# Altium footprint library yusend_power.PCBLIB: 87 footprints (part 5 of 6)
Each footprint in its own frame and in the unit in brackets; x right, y up, seen from the top. Pads: shape width x height; smd on the part's side, far side on the other; paste and mask are expansions set on the pad; w line width, h text height; cw(c..) or ccw(c..) is an arc to the next point about the centre after c.
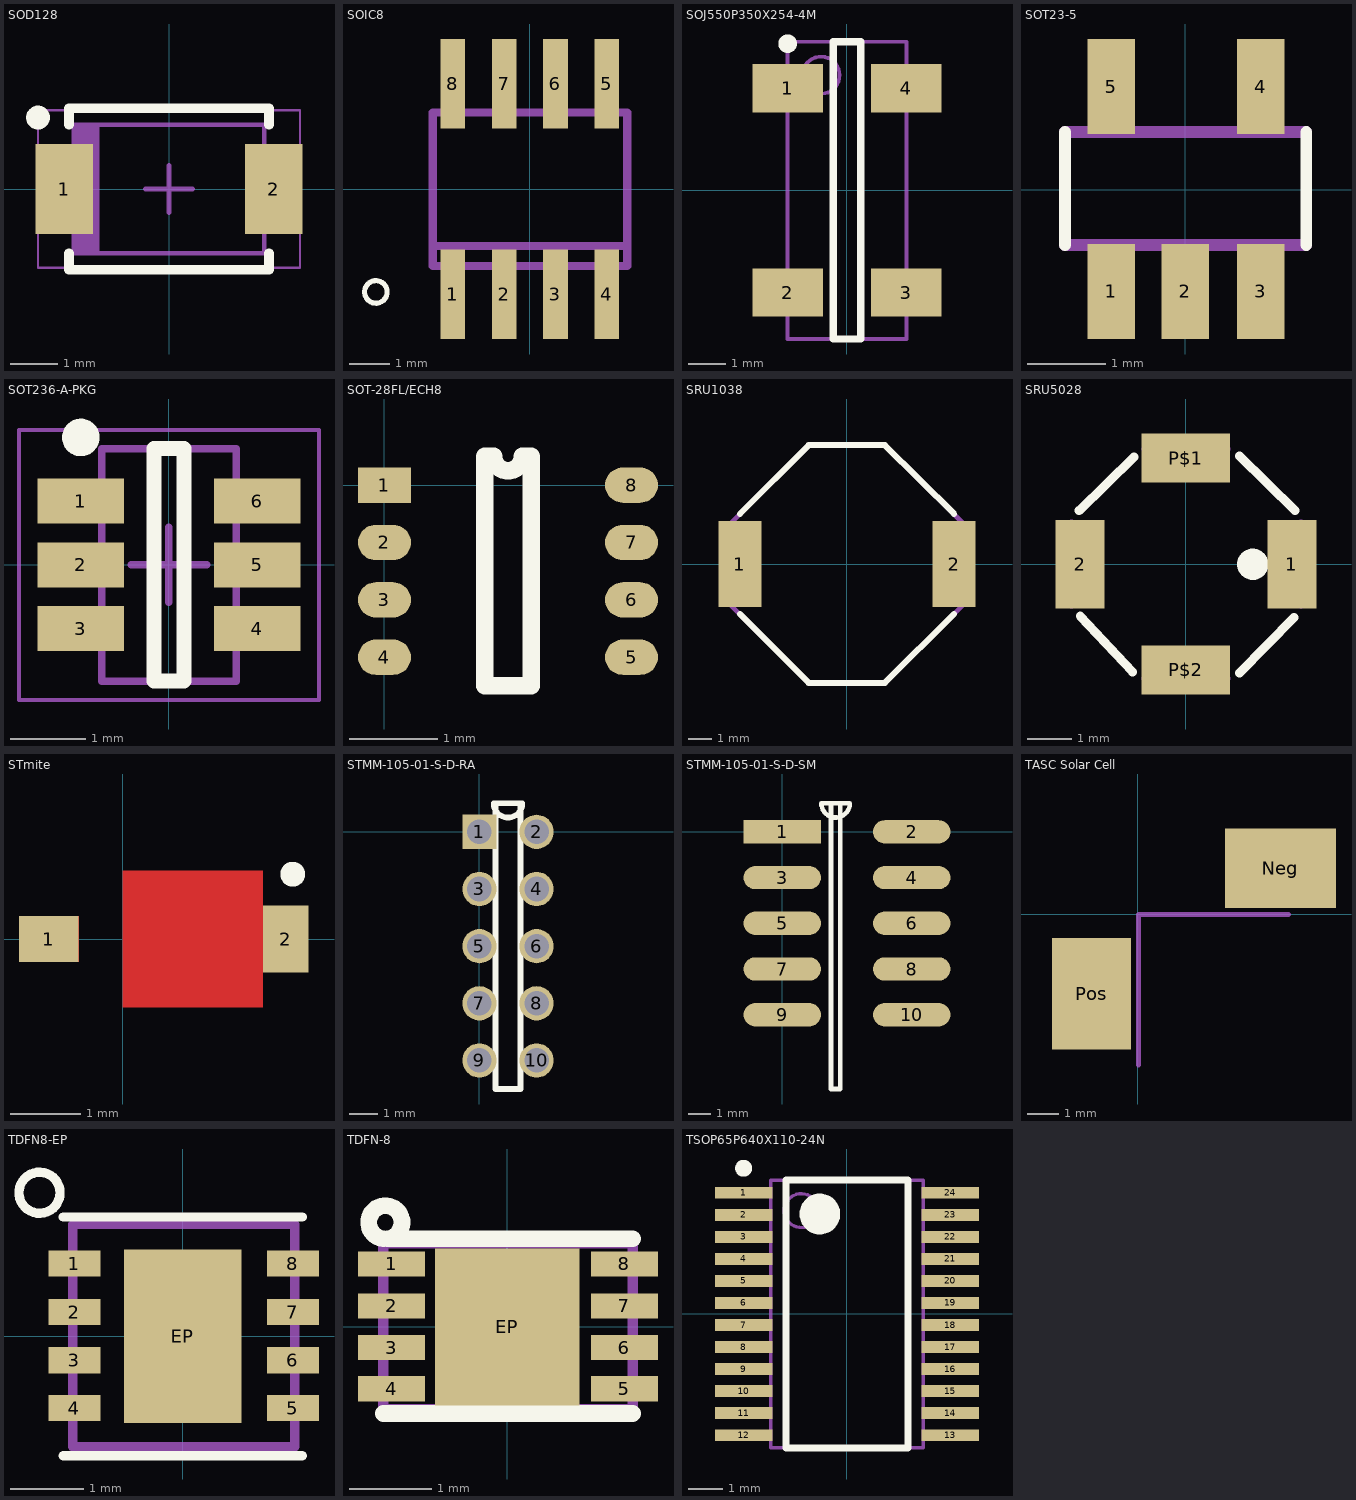
[diagram p4: the footprints below, top view; thin cyan lines are the x and y axes]

## SOD128 [mm] "Molded Diode, 2-Leads, Body 3.80x2.50mm, IPC Medium Density"
height 1.1
pads (2):
  rect 1.2x1.9 smd: 1(-2.2,0) 2(2.2,0)
Top Overlay:
  circle w0.25: c-2.75,1.5 r0.125
  lines w0.2: -2.1,-1.35 -2.1,-1.7 2.1,-1.7 2.1,-1.35 ; -2.1,1.35 -2.1,1.7 2.1,1.7 2.1,1.35
Mechanical 13:
  rectangle: -2,-1.35 -1.462,1.35
  lines w0.1: -2,-1.35 2,-1.35 2,1.35 -2,1.35 -2,-1.35
Mechanical 15:
  lines w0.05: -2.75,-1.65 2.75,-1.65 2.75,1.65 -2.75,1.65 -2.75,-1.65
  lines w0.1: -0.5,0 0.5,0 ; 0,-0.5 0,0.5
3D body: height 1.1, standoff 0, extent -2,-1.35 2,1.35

## SOIC8 [mil]
pads (8):
  rect 24x87 smd: 1(-75,-102.36) 2(-25,-102.36) 3(25,-102.36) 4(75,-102.36) 5(75,103) 6(25,103) 7(-25,103) 8(-75,103)
Top Overlay:
  circle w5: c-150,-100 r11
Mechanical 16:
  rectangle: -84.65,79 -65.35,123
  rectangle: -34.65,79 -15.35,123
  rectangle: 16,79 35,123
  rectangle: 66,79 85,123
  rectangle: 66,-122.05 85,-78.74
  rectangle: 16,-122.05 35,-78.74
  rectangle: -34.65,-122.05 -15.35,-78.74
  rectangle: -84.65,-122.05 -65.35,-78.74
  lines w8: -94.49,-55.12 95,-55.12 ; -94.49,-55.12 -94.49,75 95,75 95,-55.12 ; -94.49,-55.12 -94.49,-74.8 95,-74.8 95,-55.12

## SOJ550P350X254-4M [mm] "SOJ, 4-Leads, Body 8.00x3.55mm, Pitch 5.50mm, IPC Low Density"
height 2.54
pads (4):
  rect 1.9x1.3 smd: 1(-1.6,2.75) 2(-1.6,-2.75) 3(1.6,-2.75) 4(1.6,2.75)
Top Overlay:
  circle w0.25: c-1.6,3.95 r0.125
  lines w0.2: -0.375,-4 0.375,-4 0.375,4 -0.375,4 -0.375,-4
Mechanical 13:
  circle w0.1: c-0.7,3.1 r0.5
  lines w0.1: -1.6,-4 1.6,-4 1.6,4 -1.6,4 -1.6,-4
3D body: height 2.54, standoff 0.1, extent -1.6,-4 1.6,4

## SOT23-5 [mil]
pads (5):
  rect 24x48 smd: 1(-37.4,-51.42) 2(0,-51.42) 3(38,-51.42) 4(38,52) 5(-37.4,52)
Top Overlay:
  lines w6: -60.79,-28.03 -60.79,29 ; 61,-28.03 61,29
Mechanical 16:
  rectangle: -46.75,29 -28.05,61
  rectangle: 29,29 47,61
  rectangle: -46.75,-60.78 -28.05,-28.05
  rectangle: -9.35,-60.78 10,-28.05
  rectangle: 29,-60.78 47,-28.05
  lines w6: -60.79,-28.03 61,-28.03 ; -60.79,29 61,29

## SOT236-A-PKG [mm]
height 1.3
pads (6):
  rect 1.15x0.6 smd: 1(-1.175,0.85) 2(-1.175,0) 3(-1.175,-0.85) 4(1.175,-0.85) 5(1.175,0) 6(1.175,0.85)
Top Overlay:
  circle w0.25: c-1.175,1.7 r0.125
  lines w0.2: -0.2,-1.55 -0.2,1.55 0.2,1.55 0.2,-1.55 -0.2,-1.55
Mechanical 13:
  lines w0.1: -0.9,-1.55 0.9,-1.55 0.9,1.55 -0.9,1.55 -0.9,-1.55
Mechanical 15:
  lines w0.05: -2,-1.8 2,-1.8 2,1.8 -2,1.8 -2,-1.8
  lines w0.1: -0.5,0 0.5,0 ; 0,-0.5 0,0.5
3D body: height 1.3, standoff 0, extent -0.9,-1.55 0.9,1.55

## SOT-28FL/ECH8 [mm]
pads (8):
  rect 0.6x0.4 smd: 1(0,0)
  oval 0.6x0.4 smd: 2(0,-0.65) 3(0,-1.3) 4(0,-1.95) 5(2.8,-1.95) 6(2.8,-1.3) 7(2.8,-0.65) 8(2.8,0)
Top Overlay:
  lines w0.2: 1.135,-2.275 1.135,0.325 1.238,0.325 ccw(c1.4,0.325) 1.562,0.325 1.665,0.325 1.665,-2.275 1.135,-2.275

## SRU1038 [mil]
pads (2):
  rect 71x142 smd: 1(-177.17,0) 2(178,0)
Top Overlay:
  lines w10: -177.17,-82.68 -62.99,-196.85 63,-196.85 178,-82.68 ; -177.17,83 -62.99,197 63,197 178,83
Mechanical 16:
  lines w8: -196.85,-62.99 -196.85,63 -62.99,197 63,197 197,63 197,-62.99 63,-196.85 -62.99,-196.85 -196.85,-62.99

## SRU5028 [mil]
pads (4):
  rect 44x79 smd: 1(95,0) 2(-94.49,0)
  rect 79x44 smd: P$1(0,95) P$2(0,-94.49)
Top Overlay:
  circle w16: c60,0 r6
  lines w8: -95.36,48 -46.43,96 ; -94.36,-46.43 -47.43,-96.36 ; 48,-97.36 97,-47.43 ; 48,97 98,48
Mechanical 16:
  lines w8: -102.36,-35.43 -102.36,36 ; -35.43,-102.36 36,-102.36 ; -35.43,103 36,103 ; 103,-35.43 103,36

## SSOP20 [mil]

## STmite [mm]
pads (2):
  rect 0.85x0.65 smd: 1(-1.055,0)
  rect 0.65x0.95 smd: 2(2.325,0)
Top Layer:
  rectangle: 0,-0.975 2,0.975
  rectangle: -1.475,-0.325 -0.625,0.325
Top Overlay:
  circle w0.254: c2.425,0.925 r0.05

## STMM-105-01-S-D-RA [mm]
pads (10):
  rect 1.2x1.2 hole 0.86: 1(0,0)
  round 1.2 hole 0.86: 2(2,0) 3(0,-2) 4(2,-2) 5(0,-4) 6(2,-4) 7(0,-6) 8(2,-6) 9(0,-8) 10(2,-8)
Top Overlay:
  lines w0.2: 0.5,1 ccw(c1,1) 1.5,1 0.565,1 0.565,-9 1.435,-9 1.435,1 0.5,1
3D body: height 6.55, standoff -2.27, extent -0.228,-12.156 8.376,4.006

## STMM-105-01-S-D-SM [mm]
pads (10):
  rect 3.39x1.02 smd: 1(0,0)
  oval 3.39x1.02 smd: 2(5.66,0) 3(0,-2) 4(5.66,-2) 5(0,-4) 6(5.66,-4) 7(0,-6) 8(5.66,-6) 9(0,-8) 10(5.66,-8)
Top Overlay:
  lines w0.2: 1.705,1.25 ccw(c2.33,1.25) 2.955,1.25 2.13,1.25 2.13,-11.25 2.53,-11.25 2.53,1.25 1.705,1.25
3D body: height 6.13, standoff 0.03, extent -1.024,-12.206 6.774,3.956

## TASC Solar Cell [mm]
height 0.5
pads (2):
  rect 3.5x2.5 smd: Neg(4.5,1.45)
  rect 2.5x3.5 smd: Pos(-1.45,-2.5)
Mechanical 16:
  lines w0.152: 0.025,-4.75 0.025,0 4.75,0

## TDFN8-EP [mil]
pads (9):
  rect 28x14 smd: 1(-58.07,39) 2(-58.07,13) 3(-58.07,-12.8) 4(-58.07,-38.39) 5(59,-38.39) 6(59,-12.8) 7(59,13) 8(59,39)
  rect 63x93 smd: EP(0,0)
Top Overlay:
  circle w5: c-76.77,77 r11
  lines w5: -63.98,-63.98 64,-63.98 ; -63.98,64 64,64
Mechanical 14:
  lines w5: -59.06,-59.06 -59.06,60 60,60 60,-59.06 -59.06,-59.06

## TDFN-8 [mil]
pads (9):
  rect 32x12 smd: 1(-55.12,30) 2(-55.12,10) 3(-55.12,-9.84) 4(-55.12,-29.53) 5(56,-29.53) 6(56,-9.84) 7(56,10) 8(56,30)
  rect 69x75 smd: EP(0,0)
Top Overlay:
  lines w5: -59.06,42 -57.09,42
  lines w8: -59.06,-41.34 60,-41.34 ; -59.06,42 cw(c-58.07,49.87) -57.09,42 60,42
Top Paste:
  rectangle: -13,-13 13,13
Top Solder:
  rectangle: -34.06,-37.01 35,38
  rectangle: 40,-35.43 71,-23.62
  rectangle: 40,-15.75 71,-3.94
  rectangle: 40,4 71,16
  rectangle: 40,24 71,36
  rectangle: -70.87,-35.43 -39.37,-23.62
  rectangle: -70.87,4 -39.37,16
  rectangle: -70.87,-15.75 -39.37,-3.94
  rectangle: -70.87,24 -39.37,36
  rectangle: -70.87,24 -39.37,36
Mechanical 16:
  lines w5: -59.06,-39.37 60,-39.37 60,40 -59.06,40 -59.06,-39.37

## TSOP65P640X110-24N [mm] "TSOP, 24-Leads, Body 7.80x4.40mm, Pitch 0.65mm, IPC Medium Density"
height 1.1
pads (24):
  rect 1.7x0.35 smd: 1(-3.05,3.575) 2(-3.05,2.925) 3(-3.05,2.275) 4(-3.05,1.625) 5(-3.05,0.975) 6(-3.05,0.325) 7(-3.05,-0.325) 8(-3.05,-0.975) 9(-3.05,-1.625) 10(-3.05,-2.275) 11(-3.05,-2.925) 12(-3.05,-3.575) 13(3.05,-3.575) 14(3.05,-2.925) 15(3.05,-2.275) 16(3.05,-1.625) 17(3.05,-0.975) 18(3.05,-0.325) 19(3.05,0.325) 20(3.05,0.975) 21(3.05,1.625) 22(3.05,2.275) 23(3.05,2.925) 24(3.05,3.575)
Top Overlay:
  circle w0.6: c-0.8,2.95 r0.3
  circle w0.25: c-3.05,4.3 r0.125
  lines w0.2: -1.8,-3.95 1.8,-3.95 1.8,3.95 -1.8,3.95 -1.8,-3.95
Mechanical 13:
  circle w0.1: c-1.35,3.05 r0.5
  lines w0.1: -2.25,-3.95 2.25,-3.95 2.25,3.95 -2.25,3.95 -2.25,-3.95
3D body: height 1.1, standoff 0.15, extent -2.25,-3.95 2.25,3.95